# Altium footprint library 11-Fuse.PcbLib: 50 footprints (part 4 of 4)
Each footprint in its own frame and in the unit in brackets; x right, y up, seen from the top. Pads: shape width x height; smd on the part's side, far side on the other; paste and mask are expansions set on the pad; w line width, h text height; cw(c..) or ccw(c..) is an arc to the next point about the centre after c.
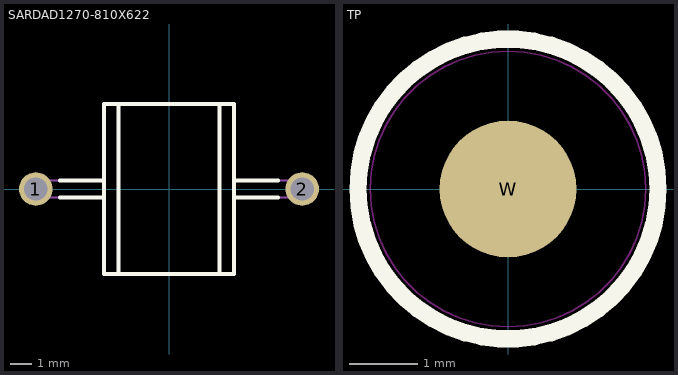
[diagram p3: the footprints below, top view; thin cyan lines are the x and y axes]

## SARDAD1270-810X622 [mm] "Surge Arrester,Axial Diameter, Leads Spacing 12.7mm, D8.1mm x L 6.22"
height 8.1
pads (2):
  round 1.6 hole 1.1: 1(-6.35,0) 2(6.35,0)
Top Overlay:
  lines w0.2: -5.2,-0.4 -3.1,-0.4 ; -5.2,0.4 -3.1,0.4 ; -2.4,-4.05 -2.4,4.05 ; 2.4,-4.05 2.4,4.05 ; 3.1,-0.4 5.2,-0.4 ; 3.1,0.4 5.2,0.4 ; -3.1,-4.05 -3.1,4.05 3.1,4.05 3.1,-4.05 -3.1,-4.05
Mechanical 14:
  lines w0.1: -3.1,-0.4 -6.35,-0.4 cw(c-6.35,0) -6.35,0.4 -3.1,0.4 ; -2.4,-4.05 -2.4,4.05 ; 2.4,-4.05 2.4,4.05 ; 3.1,-0.4 6.35,-0.4 ccw(c6.35,0) 6.35,0.4 3.1,0.4 ; -3.1,-4.05 -3.1,4.05 3.1,4.05 3.1,-4.05 -3.1,-4.05
3D body "SARDAD1270-810X622.stp": height 8.1, standoff -3.8, extent -6.75,-4.05 6.75,4.05
3D body "v200-100.stp": height 0.02, standoff -1.65, extent -7.35,-1 -5.35,1
3D body "v200-100.stp": height 0.02, standoff -1.65, extent 5.35,-1 7.35,1

## TP [mm]
height 11.7
pads (1):
  round 2 smd mask+1: W(0,0)
Top Overlay:
  circle w0.254: c0,0 r2.195
Keep-Out Layer:
  circle w0.025: c0,0 r2.017
3D body "1_016-1_016-3_tp.stp": height 0.02, standoff 0, extent -1.5,-1.5 1.5,1.5